# EAGLE library part IRF9389TRPBF (library IRF9389TRPBF)
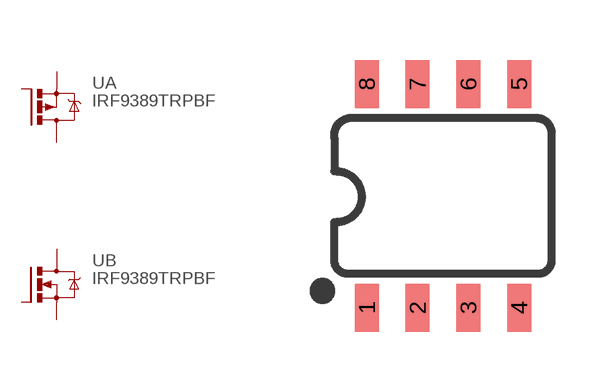
[diagram p0: symbol with the pads of SO08; footprint SO08]

Designator prefix U; gates A=MFPS B=MFNS

## IRF9389TRPBF  [SO08]
1  A:S  pas
2  A:G  pas
3  B:S  pas
4  B:G  pas
5  B:D  pas
7  A:D  pas

## Footprint SO08 (pad centres in mm)
SOIC, 0.15 inch width
smd 0.6 x 1.2: 1 -1.905,-2.8; 2 -0.635,-2.8; 3 0.635,-2.8; 4 1.905,-2.8; 5 1.905,2.8; 6 0.635,2.8; 7 -0.635,2.8; 8 -1.905,2.8